# EAGLE library part ATSAMB11-ZR210 (library microchip_bt)
edit this description Auto generated by make-symbol-device-package-bsdl.ulp Rev. 44 Source: Connect-List generated from ATSAMB11ZR.DEV Variant '' with connect-device-split-symbol.ulp
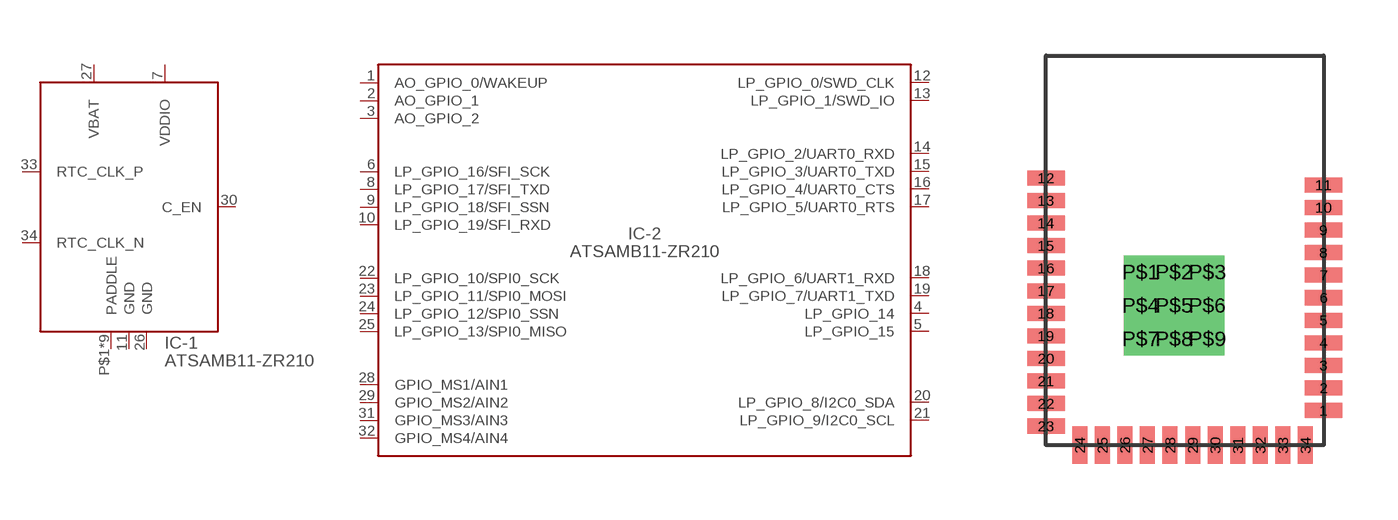
[diagram p1: symbol with the pads of ATSAMB11ZR; footprint ATSAMB11ZR]

Designator prefix IC; gates -1=ATSAMB11.POWER -2=ATSAMB11.IO

## ATSAMB11-ZR210  [ATSAMB11ZR]
1  -2:AO_GPIO_0/WAKEUP
2  -2:AO_GPIO_1
3  -2:AO_GPIO_2
4  -2:LP_GPIO_14
5  -2:LP_GPIO_15
6  -2:LP_GPIO_16/SFI_SCK
7  -1:VDDIO  pwr
8  -2:LP_GPIO_17/SFI_TXD
9  -2:LP_GPIO_18/SFI_SSN
10  -2:LP_GPIO_19/SFI_RXD
11  -1:GND  pwr
12  -2:LP_GPIO_0/SWD_CLK
13  -2:LP_GPIO_1/SWD_IO
14  -2:LP_GPIO_2/UART0_RXD
15  -2:LP_GPIO_3/UART0_TXD
16  -2:LP_GPIO_4/UART0_CTS
17  -2:LP_GPIO_5/UART0_RTS
18  -2:LP_GPIO_6/UART1_RXD
19  -2:LP_GPIO_7/UART1_TXD
20  -2:LP_GPIO_8/I2C0_SDA
21  -2:LP_GPIO_9/I2C0_SCL
22  -2:LP_GPIO_10/SPI0_SCK
23  -2:LP_GPIO_11/SPI0_MOSI
24  -2:LP_GPIO_12/SPI0_SSN
25  -2:LP_GPIO_13/SPI0_MISO
26  -1:GND  pwr
27  -1:VBAT  pwr
28  -2:GPIO_MS1/AIN1
29  -2:GPIO_MS2/AIN2
30  -1:C_EN  in
31  -2:GPIO_MS3/AIN3
32  -2:GPIO_MS4/AIN4
33  -1:RTC_CLK_P
34  -1:RTC_CLK_N
P$1  -1:PADDLE  pwr
P$2  -1:PADDLE  pwr
P$3  -1:PADDLE  pwr
P$4  -1:PADDLE  pwr
P$5  -1:PADDLE  pwr
P$6  -1:PADDLE  pwr
P$7  -1:PADDLE  pwr
P$8  -1:PADDLE  pwr
P$9  -1:PADDLE  pwr

## Footprint ATSAMB11ZR (pad centres in mm)
smd 1.016 x 0.406: 1 3.752,-4.33; 2 3.752,-3.72; 3 3.752,-3.111; 4 3.752,-2.501; 5 3.752,-1.891; 6 3.752,-1.28; 7 3.752,-0.67; 8 3.752,-0.06; 9 3.752,0.549; 10 3.752,1.159; 11 3.752,1.77; 12 -3.752,1.958; 13 -3.752,1.347; 14 -3.752,0.738; 15 -3.752,0.128; 16 -3.752,-0.482; 17 -3.752,-1.093; 18 -3.752,-1.702; 19 -3.752,-2.312; 20 -3.752,-2.922; 21 -3.752,-3.533; 22 -3.752,-4.143; 23 -3.752,-4.753
smd 0.406 x 1.016: 24 -2.837,-5.271; 25 -2.228,-5.271; 26 -1.617,-5.271; 27 -1.008,-5.271; 28 -0.398,-5.271; 29 0.212,-5.271; 30 0.823,-5.271; 31 1.433,-5.271; 32 2.042,-5.271; 33 2.652,-5.271; 34 3.263,-5.271
drill 0.35 pad 0.902 square: P$1 -1.192,-0.593; P$2 -0.29,-0.593; P$3 0.612,-0.593; P$4 -1.192,-1.495; P$5 -0.29,-1.495; P$6 0.612,-1.495; P$7 -1.192,-2.397; P$8 -0.29,-2.397; P$9 0.612,-2.397